# EAGLE library part ATMEGA16U2 (library ATmega16U2)
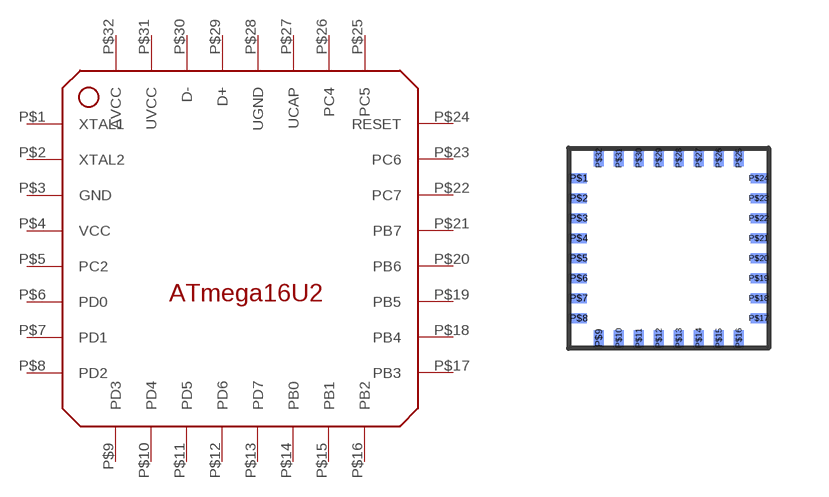
[diagram p0: symbol with the pads of QFN32; footprint QFN32]

Designator prefix -

## ATMEGA16U2  [QFN32]
P$1  XTAL1
P$2  XTAL2
P$3  GND
P$4  VCC
P$5  PC2
P$6  PD0
P$7  PD1
P$8  PD2
P$9  PD3
P$10  PD4
P$11  PD5
P$12  PD6
P$13  PD7
P$14  PB0
P$15  PB1
P$16  PB2
P$17  PB3
P$18  PB4
P$19  PB5
P$20  PB6
P$21  PB7
P$22  PC7
P$23  PC6
P$24  RESET
P$25  PC5
P$26  PC4
P$27  UCAP
P$28  UGND
P$29  D+
P$30  D-
P$31  UVCC
P$32  AVCC

## Footprint QFN32 (pad centres in mm)
smd 0.4 x 0.25 bottom: P$1 0.25,-0.75; P$2 0.25,-1.25; P$3 0.25,-1.75; P$4 0.25,-2.25; P$5 0.25,-2.75; P$6 0.25,-3.25; P$7 0.25,-3.75; P$8 0.25,-4.25; P$17 4.75,-4.25; P$18 4.75,-3.75; P$19 4.75,-3.25; P$20 4.75,-2.75; P$21 4.75,-2.25; P$22 4.75,-1.75; P$23 4.75,-1.25; P$24 4.75,-0.75
smd 0.25 x 0.4 bottom: P$9 0.75,-4.75; P$10 1.25,-4.75; P$11 1.75,-4.75; P$12 2.25,-4.75; P$13 2.75,-4.75; P$14 3.25,-4.75; P$15 3.75,-4.75; P$16 4.25,-4.75; P$25 4.25,-0.25; P$26 3.75,-0.25; P$27 3.25,-0.25; P$28 2.75,-0.25; P$29 2.25,-0.25; P$30 1.75,-0.25; P$31 1.25,-0.25; P$32 0.75,-0.25